# Altium schematic symbol library resistor.SchLib: 8 symbols
Pins are listed as number, name and electrical type; pins without a type are passive.

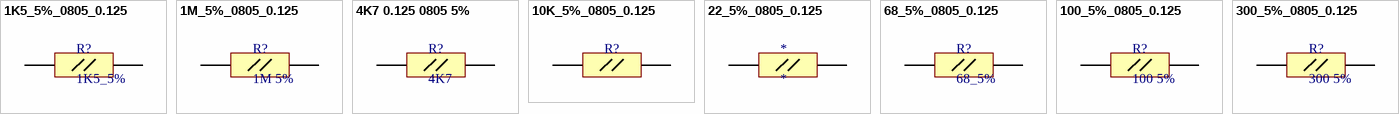
[diagram p0: symbols 1K5_5%_0805_0.125 to 300_5%_0805_0.125]

## 1K5_5%_0805_0.125
designator R?, comment 1K5_5%
footprint 0805
pins: 1, 2

## 1M_5%_0805_0.125
designator R?, comment 1M 5%
footprint 0805
pins: 1, 2

## 4K7 0.125 0805 5%
designator R?, comment 4K7
footprint 0805
pins: 1, 2

## 10K_5%_0805_0.125
designator R?  (value not drawn)
footprint 0805
pins: 1, 2

## 22_5%_0805_0.125
designator *
footprint 0805
pins: 1, 2

## 68_5%_0805_0.125
designator R?, comment 68_5%
footprint 0805
pins: 1, 2

## 100_5%_0805_0.125
designator R?, comment 100 5%
footprint 0805
pins: 1, 2

## 300_5%_0805_0.125
designator R?, comment 300 5%
footprint 0805
pins: 1, 2